# EAGLE library part KEVINKUWATA_EAGLE_TCA9534 (library Qwiic_GPIO)
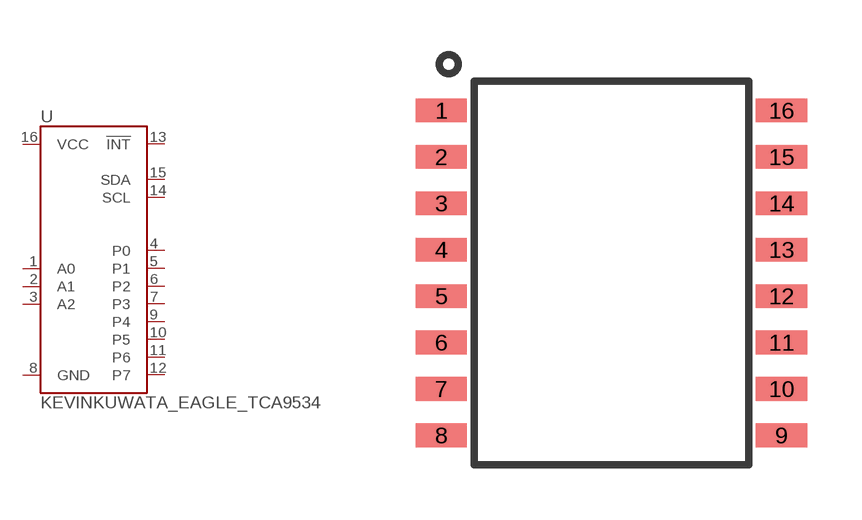
[diagram p0: symbol with the pads of KEVINKUWATA_EAGLE_16SOIC; footprint KEVINKUWATA_EAGLE_16SOIC]

Designator prefix U

## KEVINKUWATA_EAGLE_TCA9534U  [KEVINKUWATA_EAGLE_16SOIC]
1  A0
2  A1
3  A2
4  P0
5  P1
6  P2
7  P3
8  GND
9  P4
10  P5
11  P6
12  P7
13  !INT
14  SCL
15  SDA
16  VCC

## Footprint KEVINKUWATA_EAGLE_16SOIC (pad centres in mm)
smd 1.397 x 0.648: 1 -4.65,4.445; 2 -4.65,3.175; 3 -4.65,1.905; 4 -4.65,0.635; 5 -4.65,-0.635; 6 -4.65,-1.905; 7 -4.65,-3.175; 8 -4.65,-4.445; 9 4.65,-4.445; 10 4.65,-3.175; 11 4.65,-1.905; 12 4.65,-0.635; 13 4.65,0.635; 14 4.65,1.905; 15 4.65,3.175; 16 4.65,4.445